# EAGLE library part BCR320U (library Rebel)
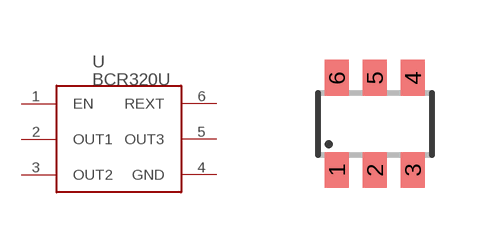
[diagram p32: symbol with the pads of SOT23-6; footprint SOT23-6]

Designator prefix -

## BCR320U  [SOT23-6]
1  EN
2  OUT1
3  OUT2
4  GND
5  OUT3
6  REXT

## Footprint SOT23-6 (pad centres in mm)
Small Outline Transistor 6 lead
smd 0.6 x 0.9: 1 -0.95,-1.15; 2 0,-1.15; 3 0.95,-1.15; 4 0.95,1.15; 5 0,1.15; 6 -0.95,1.15